# Altium schematic symbol library TS02N.SchLib: 1 symbol
Pins are listed as number, name and electrical type; pins without a type are passive.

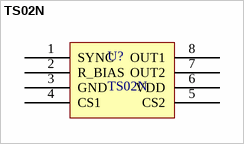
[diagram p0: symbol TS02N]

## TS02N
designator U?
footprint SO-8N (SOIC, 8-Leads, Body 4/89x3/90mm, Pitch 1/27mm, IPC Medium Density designer:abbas basereh)
footprint DIP8
pins: 1 SYNC, 2 R_BIAS, 3 GND, 4 CS1, 5 CS2, 6 VDD, 7 OUT2, 8 OUT1